# EAGLE library part TA-8429H (library untitled)
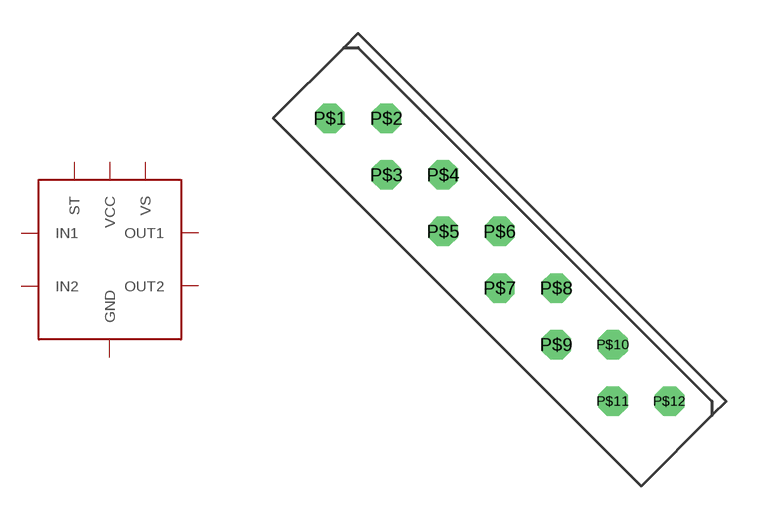
[diagram p0: symbol with the pads of TA-8429H; footprint TA-8429H]

Designator prefix -

## TA-8429H  [TA-8429H]
P$1  IN1
P$2  IN2
P$4  OUT1
P$6  GND
P$8  OUT2
P$10  VS
P$11  VCC
P$12  ST

## Footprint TA-8429H (pad centres in mm)
drill 0.813 octagon: P$1 -7.62,6.35; P$2 -5.08,6.35; P$3 -5.08,3.81; P$4 -2.54,3.81; P$5 -2.54,1.27; P$6 0,1.27; P$7 0,-1.27; P$8 2.54,-1.27; P$9 2.54,-3.81; P$10 5.08,-3.81; P$11 5.08,-6.35; P$12 7.62,-6.35